# Altium schematic symbol library sym-0009.SchLib: 1 symbol
Pins are listed as number, name and electrical type; pins without a type are passive.

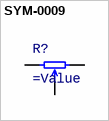
[diagram p0: symbol SYM-0009]

## SYM-0009
designator R?
Potentiometer
pins: 1, 2, 3
1 alternate drawing of the same symbol